# Altium schematic symbol library CL10B104KB8NNWC 0.1uF 0603.SchLib: 1 symbol
Pins are listed as number, name and electrical type; pins without a type are passive.

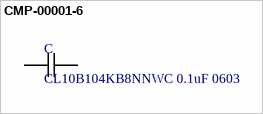
[diagram p0: symbol CMP-00001-6]

## CMP-00001-6
designator C, comment CL10B104KB8NNWC 0.1uF 0603
CL10B104KB8NNWC 0.1uF 0603 +-10% SMD; ComponentLink1Description: Supplier; Value: 0.1uF; ComponentLink1URL: https://www.digikey.com/en/products/detail/samsung-electro-mechanics/CL10B104KB8NNWC/3887593
footprint CL10B104KB8NNWC 0.1uF 0603-Footprint-1
pins: 1, 2